# EAGLE library part TD-104-T-A (library SAMTEC-Txx_By_element14_Batch_1)
CONN RECEPTACLE, 2.54MM, THT VERT, 8WAY
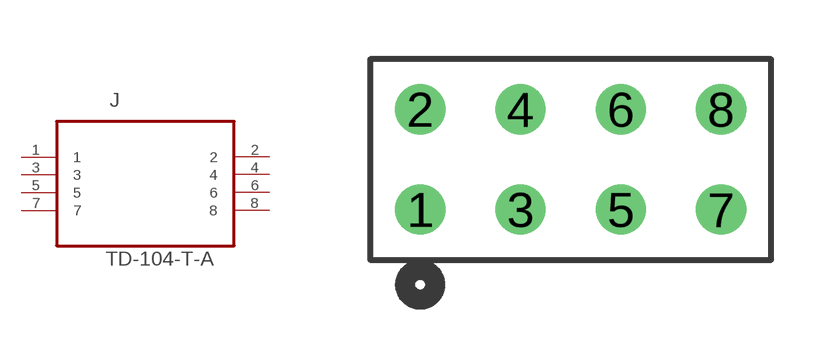
[diagram p3: symbol with the pads of SAMTEC_TD-104-T-A; footprint SAMTEC_TD-104-T-A]

Designator prefix J

## TD-104-T-A (MPN: TD-104-T-A; OC_FARNELL: 2020065; OC_NEWARK: -; PACKAGE: RECEPTACLE, 2.54MM, THT VERT,8WAY; SUPPLIER: SAMTEC)  [SAMTEC_TD-104-T-A]
1  1  pas
2  2  pas
3  3  pas
4  4  pas
5  5  pas
6  6  pas
7  7  pas
8  8  pas

## Footprint SAMTEC_TD-104-T-A (pad centres in mm)
drill 0.762: 1 -7.62,-2.54; 2 -7.62,0; 3 -5.08,-2.54; 4 -5.08,0; 5 -2.54,-2.54; 6 -2.54,0; 7 0,-2.54; 8 0,0